# EAGLE library part 1-1571983-1 (library Switches)
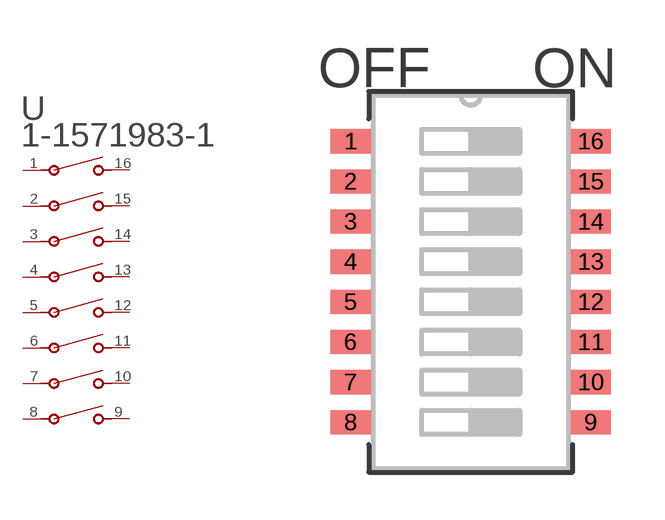
[diagram p27: symbol with the pads of SWSO16_299X91P50; footprint SWSO16_299X91P50]

Designator prefix U

## 1-1571983-1 (BUILT_BY: EMA_UL_Team; CATEGORY: DIP & SIP Switches; COPYRIGHT: Copyright (C) 2016 Accelerated Designs. All rights reserved; DESCRIPTION: GDH08STR04=DIP SWITCH; MANUFACTURER_PART_NUMBER: 1-1571983-1; PART_STATUS: active; SERIES: Alcoswitch DIP,Alcoswitch DIP GDH; VENDOR: TE Connectivity)  [SWSO16_299X91P50]
1  1  pas
2  2  pas
3  3  pas
4  4  pas
5  5  pas
6  6  pas
7  7  pas
8  8  pas
9  9  pas
10  10  pas
11  11  pas
12  12  pas
13  13  pas
14  14  pas
15  15  pas
16  16  pas

## Footprint SWSO16_299X91P50 (pad centres in mm)
smd 1.27 x 0.762: 1 -3.797,4.445; 2 -3.797,3.175; 3 -3.797,1.905; 4 -3.797,0.635; 5 -3.797,-0.635; 6 -3.797,-1.905; 7 -3.797,-3.175; 8 -3.797,-4.445; 9 3.797,-4.445; 10 3.797,-3.175; 11 3.797,-1.905; 12 3.797,-0.635; 13 3.797,0.635; 14 3.797,1.905; 15 3.797,3.175; 16 3.797,4.445